# EAGLE library part EF80 (library radiotubes)
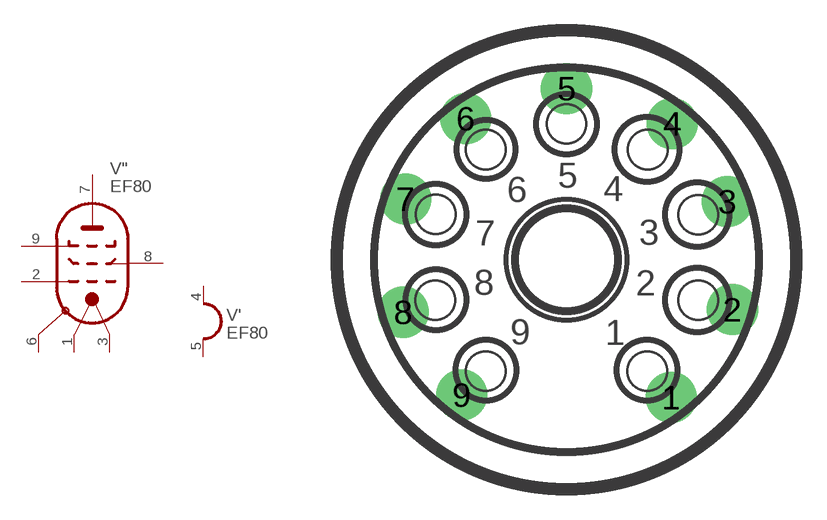
[diagram p104: symbol with the pads of NOVAL; footprint NOVAL]

Designator prefix V; gates "=PENT-2K '=HEATER_1

## EF80  [NOVAL]
1  ":K1  pas
2  ":G1  pas
3  ":K2  pas
4  ':H1  pas
5  ':H2  pas
6  ":S  pas
7  ":A  pas
8  ":G2  pas
9  ":G3  pas

## Footprint NOVAL (pad centres in mm)
drill 1.422 pad 2.54: 1 5.207,-6.858; 2 8.254,-2.484; 3 8.004,2.893; 4 5.258,6.77; 5 0,8.524; 6 -5.004,7.024; 7 -8.004,3.02; 8 -8.127,-2.611; 9 -5.207,-6.731